# Altium footprint library MegaProject_Lib.PcbLib: 20 footprints (part 1 of 2)
Each footprint in its own frame and in the unit in brackets; x right, y up, seen from the top. Pads: shape width x height; smd on the part's side, far side on the other; paste and mask are expansions set on the pad; w line width, h text height; cw(c..) or ccw(c..) is an arc to the next point about the centre after c.
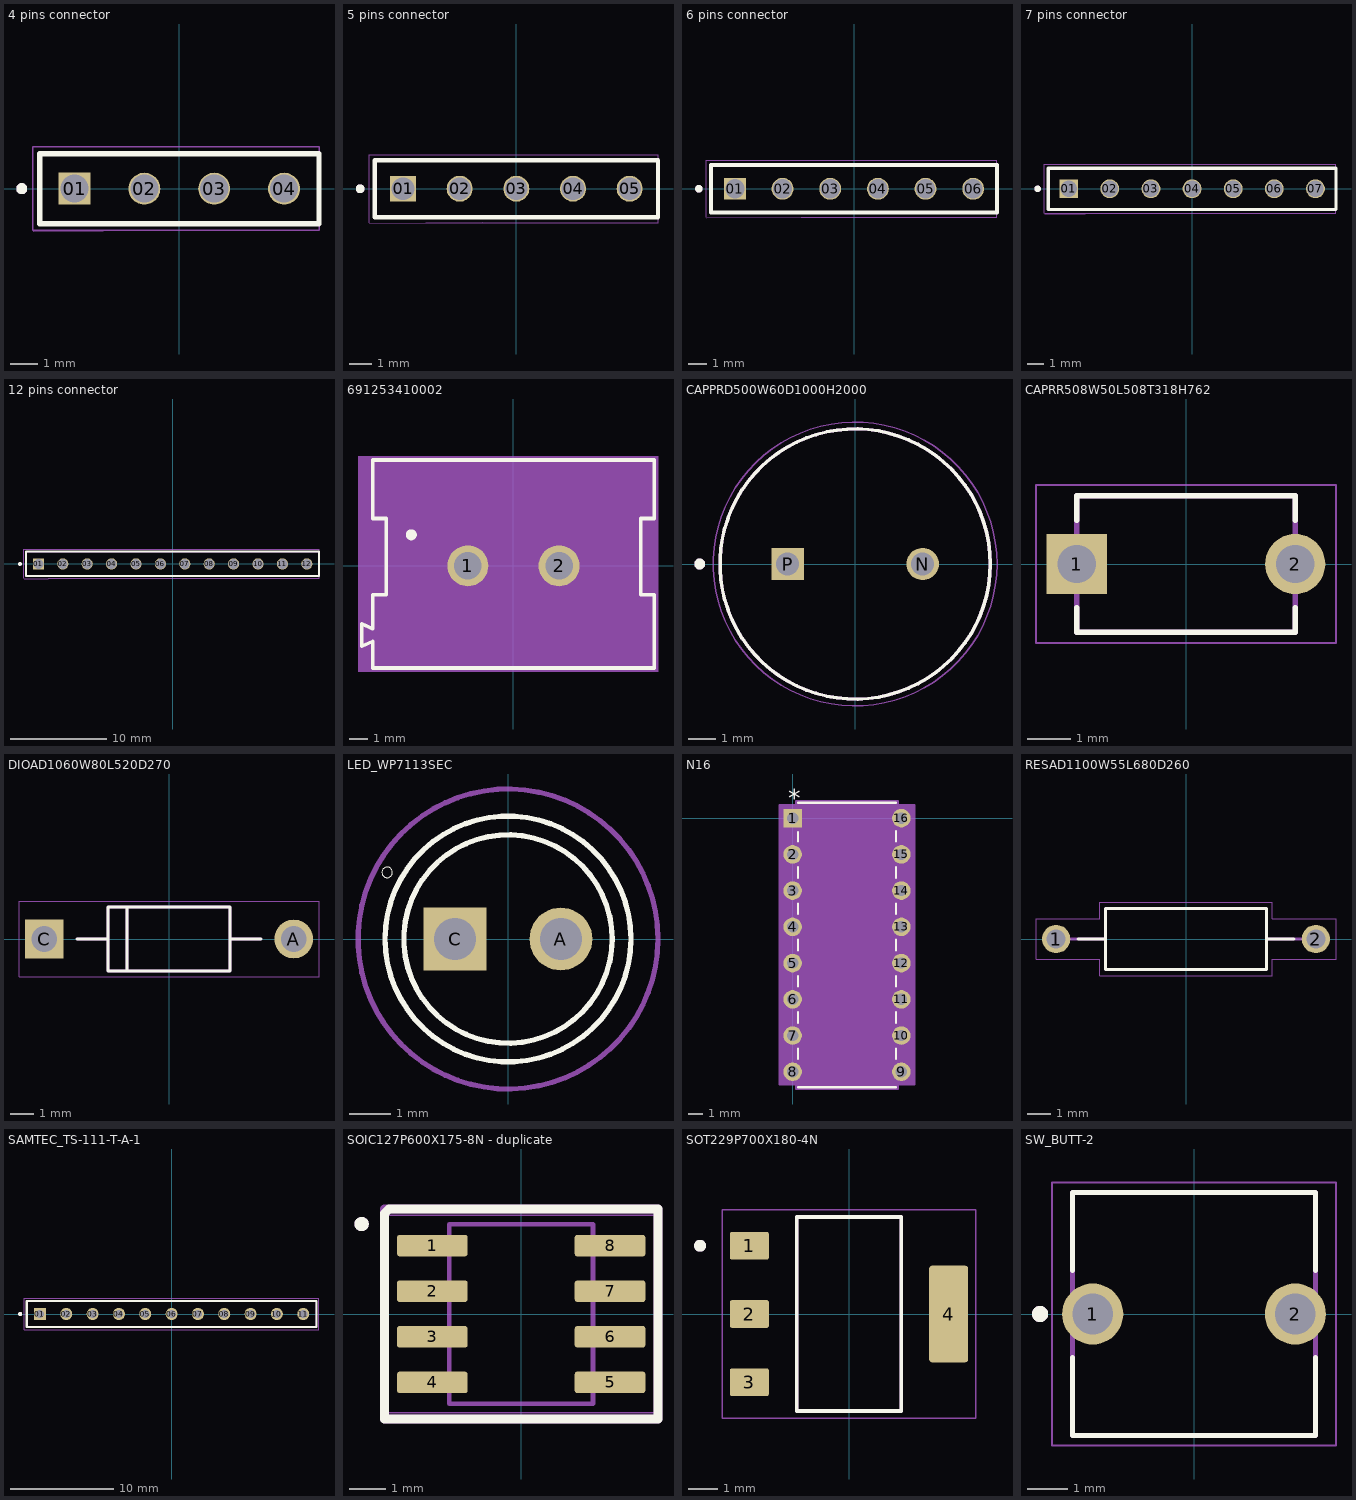
[diagram p0: the footprints below, top view; thin cyan lines are the x and y axes]

## 4 pins connector [mm]
pads (4):
  rect 1.163x1.163 hole 1.02: 01(-3.81,0)
  round 1.163 hole 1.02: 02(-1.27,0) 03(1.27,0) 04(3.81,0)
Top Overlay:
  circle w0.2: c-5.73,0 r0.1
  lines w0.2: -2.54,-1.27 -5.08,-1.27 ; -2.54,1.27 -5.08,1.27 ; -5.08,-1.27 5.08,-1.27 5.08,-0.635 5.08,0.635 5.08,1.27 -5.08,1.27 ; -5.08,-1.27 -5.08,1.27
Mechanical 13:
  circle w0.2: c-5.73,0 r0.1
  lines w0.1: -5.08,-1.27 5.08,-1.27 ; -5.08,-1.27 -5.08,1.27 ; -5.08,-1.27 -5.08,1.27 ; -5.08,-1.27 -2.54,-1.27 -5.08,-1.27 ; -5.08,1.27 5.08,1.27 ; -5.08,1.27 5.08,1.27 ; -5.08,1.27 -2.54,1.27 -5.08,1.27 ; 5.08,-1.27 5.08,1.27 ; 5.08,-1.27 5.08,-0.635 5.08,0.635 5.08,1.27
Mechanical 15:
  lines w0.05: -5.335,-1.52 5.08,-1.52 5.08,1.52 -5.318,1.52 ; -5.33,-1.52 -5.33,1.52 ; -5.323,1.516 -2.805,1.516 ; -5.304,-1.544 -2.774,-1.526

## 5 pins connector [mm]
pads (5):
  rect 1.163x1.163 hole 1.02: 01(-5.08,0)
  round 1.163 hole 1.02: 02(-2.54,0) 03(0,0) 04(2.54,0) 05(5.08,0)
Top Overlay:
  circle w0.2: c-7,0 r0.1
  lines w0.2: -3.81,-1.27 6.35,-1.27 6.35,-0.635 6.35,0.635 6.35,1.27 -3.81,1.27 ; -1.27,-1.27 -6.35,-1.27 -6.35,1.27 -1.27,1.27
Mechanical 13:
  circle w0.2: c-7,0 r0.1
  lines w0.1: -3.81,-1.27 6.35,-1.27 ; -6.35,-1.27 -6.35,1.27 ; -6.35,-1.27 -6.35,1.27 ; -6.35,-1.27 -1.27,-1.27 -6.35,-1.27 ; -6.35,1.27 -1.27,1.27 -6.35,1.27 ; 6.35,-1.27 6.35,1.27 ; 6.35,-1.27 6.35,-0.635 6.35,0.635 6.35,1.27 ; 6.35,1.27 -3.81,1.27 6.35,1.27
Mechanical 15:
  lines w0.05: -6.6,-1.52 -6.6,1.52 ; -6.593,1.516 -1.426,1.516 ; -6.574,-1.544 -1.539,-1.508 ; -4.065,-1.52 6.35,-1.52 6.35,1.52 -4.048,1.52

## 6 pins connector [mm]
pads (6):
  rect 1.163x1.163 hole 1.02: 01(-6.35,0)
  round 1.163 hole 1.02: 02(-3.81,0) 03(-1.27,0) 04(1.27,0) 05(3.81,0) 06(6.35,0)
Top Overlay:
  circle w0.2: c-8.27,0 r0.1
  lines w0.2: -7.62,-1.27 -7.62,1.27 -2.54,1.27 7.62,1.27 7.62,0.635 7.62,-0.635 7.62,-1.27 -2.54,-1.27 -7.62,-1.27
Mechanical 13:
  circle w0.2: c-8.27,0 r0.1
  lines w0.1: -7.62,-1.27 -7.62,1.27 ; -7.62,-1.27 -7.62,1.27 ; -7.62,-1.27 -2.54,-1.27 ; -7.62,-1.27 -2.54,-1.27 ; -7.62,1.27 -2.54,1.27 ; -7.62,1.27 -2.54,1.27 ; -2.54,-1.27 7.62,-1.27 ; -2.54,1.27 7.62,1.27 ; -2.54,1.27 7.62,1.27 ; 7.62,-1.27 7.62,1.27 ; 7.62,-1.27 7.62,-0.635 7.62,0.635 7.62,1.27
Mechanical 15:
  lines w0.05: -7.87,-1.52 -7.87,1.52 ; -7.863,1.516 -2.696,1.516 ; -7.844,-1.544 -2.809,-1.508 ; -2.795,-1.52 7.62,-1.52 7.62,1.52 -2.778,1.52

## 7 pins connector [mm]
pads (7):
  rect 1.163x1.163 hole 1.02: 01(-7.62,0)
  round 1.163 hole 1.02: 02(-5.08,0) 03(-2.54,0) 04(0,0) 05(2.54,0) 06(5.08,0) 07(7.62,0)
Top Overlay:
  circle w0.2: c-9.54,0 r0.1
  lines w0.2: -6.35,-1.27 -8.89,-1.27 ; -6.35,1.27 -8.89,1.27 ; -8.89,-1.27 8.89,-1.27 8.89,1.27 -8.89,1.27 ; -8.89,-1.27 -8.89,1.27
Mechanical 13:
  circle w0.2: c-9.54,0 r0.1
  lines w0.1: -8.89,-1.27 -6.35,-1.27 -8.89,-1.27 ; -8.89,-1.27 8.89,-1.27 ; -8.89,-1.27 -8.89,1.27 ; -8.89,-1.27 -8.89,1.27 ; -8.89,1.27 -6.35,1.27 -8.89,1.27 ; -8.89,1.27 8.89,1.27 ; -8.89,1.27 8.89,1.27 ; 8.89,-1.27 8.89,1.27 ; 8.89,-1.27 8.89,-0.635 8.89,0.635 8.89,1.27
Mechanical 15:
  lines w0.05: -9.14,-1.52 -9.14,1.52 ; -9.133,1.516 -6.615,1.516 ; -9.114,-1.544 -6.584,-1.526 ; -9.098,-1.52 8.89,-1.52 8.89,1.52 -9.077,1.52

## 12 pins connector [mm]
pads (12):
  rect 1.163x1.163 hole 1.02: 01(-13.97,0)
  round 1.163 hole 1.02: 02(-11.43,0) 03(-8.89,0) 04(-6.35,0) 05(-3.81,0) 06(-1.27,0) 07(1.27,0) 08(3.81,0) 09(6.35,0) 10(8.89,0) 11(11.43,0) 12(13.97,0)
Top Overlay:
  circle w0.2: c-15.89,0 r0.1
  lines w0.2: -15.24,-1.27 -12.7,-1.27 15.24,-1.27 15.24,1.27 -12.7,1.27 -15.24,1.27 -15.24,-1.27
Mechanical 13:
  circle w0.2: c-15.89,0 r0.1
  lines w0.1: -15.24,-1.27 -12.7,-1.27 ; -15.24,-1.27 -12.7,-1.27 ; -15.24,-1.27 -15.24,1.27 ; -15.24,-1.27 -15.24,1.27 ; -15.24,1.27 -12.7,1.27 ; -15.24,1.27 -12.7,1.27 ; -12.7,-1.27 15.24,-1.27 ; -12.7,1.27 15.24,1.27 ; -12.7,1.27 15.24,1.27 ; 15.24,-1.27 15.24,1.27 ; 15.24,-1.27 15.24,-0.635 15.24,0.635 15.24,1.27
Mechanical 15:
  lines w0.05: -15.49,-1.52 -15.49,1.52 ; -15.483,1.516 -12.965,1.516 ; -15.464,-1.544 -12.934,-1.526 ; -12.95,-1.52 15.24,-1.52 15.24,1.52 -12.95,1.52

## 691253410002 [mm]
pads (2):
  round 2.25 hole 1.5: 1(-2.5,0) 2(2.5,0)
Top Overlay:
  circle w0.4: c-5.6,1.7 r0.1
  lines w0.2: -8.32,-4.41 -8.32,-3.18 -7.72,-3.44 -7.72,-1.59 -6.97,-1.59 -6.97,2.59 -7.72,2.59 -7.72,5.8 7.72,5.8 7.72,2.59 6.97,2.59 6.97,-1.59 7.72,-1.59 7.72,-5.6 -7.72,-5.6 -7.72,-4.15 -8.32,-4.41
Mechanical 13:
  lines w0.1: -8.22,-4.31 -7.62,-4.05 -7.62,-5.5 7.62,-5.5 7.62,-1.69 6.87,-1.69 6.87,2.69 7.62,2.69 7.62,5.7 -7.62,5.7 -7.62,2.69 -6.87,2.69 -6.87,-1.69 -7.62,-1.69 -7.62,-3.54 -8.22,-3.28 -8.22,-4.31
Mechanical 15:
  region: 7.92,-5.8 -8.52,-5.8 -8.52,6 7.92,6

## CAPPRD500W60D1000H2000 [mm]
pads (2):
  round 1.2 hole 0.85: N(2.5,0)
  rect 1.2x1.2 hole 0.85: P(-2.5,0)
Top Overlay:
  circle w0.2: c-5.75,0 r0.1
  circle w0.127: c0,0 r5
Mechanical 13:
  circle w0.2: c-5.75,0 r0.1
  circle w0.127: c0,0 r5
Mechanical 15:
  circle w0.05: c0,0 r5.25
3D body "step_temp.STEP": height 20, standoff -17, extent -5,-5 5,5

## CAPRR508W50L508T318H762 [mm]
pads (2):
  rect 1.398x1.398 / inner round 1.398 / far side rect 1.398x1.398 hole 0.89: 1(-2.54,0)
  round 1.398 hole 0.89: 2(2.54,0)
Top Overlay:
  lines w0.127: -2.54,-1.019 -2.54,-1.587 2.54,-1.587 2.54,-1.019 ; -2.54,1.019 -2.54,1.587 2.54,1.587 2.54,1.019
Mechanical 13:
  lines w0.127: -2.54,-1.587 -2.54,1.587 2.54,1.587 2.54,-1.587 -2.54,-1.587
Mechanical 15:
  lines w0.05: -3.489,-1.837 -3.489,1.837 3.489,1.837 3.489,-1.837 -3.489,-1.837

## DIOAD1060W80L520D270 [mm]
pads (2):
  round 1.65 hole 1.1: A(5.3,0)
  rect 1.65x1.65 / inner round 1.65 / far side rect 1.65x1.65 hole 1.1: C(-5.3,0)
Top Overlay:
  lines w0.127: -3.9,0 -2.6,0 ; 3.9,0 2.6,0 ; -2.6,0 -2.6,-1.35 -1.775,-1.35 ; -2.6,0 -2.6,1.35 -1.775,1.35 ; -1.775,-1.35 -1.775,1.35 ; -1.775,-1.35 2.6,-1.35 2.6,0 ; -1.775,1.35 2.6,1.35 2.6,0
Mechanical 13:
  lines w0.127: -3.9,0 -2.6,0 ; 3.9,0 2.6,0 ; -2.6,0 -2.6,-1.35 -1.775,-1.35 ; -2.6,0 -2.6,1.35 -1.775,1.35 ; -1.775,-1.35 -1.775,1.35 ; -1.775,-1.35 2.6,-1.35 2.6,0 ; -1.775,1.35 2.6,1.35 2.6,0
Mechanical 15:
  lines w0.05: -6.375,-1.6 -6.375,1.6 6.375,1.6 6.375,-1.6 -6.375,-1.6
3D body "step_temp.STEP": height 2, standoff -22.86, extent -4.242,-1 4.242,1

## LED_WP7113SEC [mm]
pads (2):
  round 1.508 hole 1: A(1.27,0)
  rect 1.508x1.508 hole 1: C(-1.27,0)
Top Overlay:
  circle w0.127: c0,0 r2.95
  circle w0.127: c0,0 r2.5
  circle w0: c-2.9,1.6 r0.127
Mechanical 15:
  circle w0.127: c0,0 r3.6

## N16 [mil]
pads (16):
  rect 51x51 / inner round 60 / far side rect 51x51 hole 31 paste-25.5 mask+0: 1(0,0)
  round 51 / inner round 60 / far side round 51 hole 31 paste-25.5 mask+0: 2(0,-100) 3(0,-200) 4(0,-300) 5(0,-400) 6(0,-500) 7(0,-600) 8(0,-700) 9(300,-700) 10(300,-600) 11(300,-500) 12(300,-400) 13(300,-300) 14(300,-200) 15(300,-100) 16(300,0)
Top Overlay:
  lines w6: 15,-742.5 285,-742.5 ; 15,-664.43 15,-635.57 ; 15,-564.43 15,-535.57 ; 15,-464.43 15,-435.57 ; 15,-364.43 15,-335.57 ; 15,-264.43 15,-235.57 ; 15,-164.43 15,-135.57 ; 15,-64.43 15,-38.6 ; 15,42.5 285,42.5 ; 285,-664.43 285,-635.57 ; 285,-564.43 285,-535.57 ; 285,-464.43 285,-435.57 ; 285,-364.43 285,-335.57 ; 285,-264.43 285,-235.57 ; 285,-164.43 285,-135.57 ; 285,-64.43 285,-35.57
  text "*" at -12.5,30.5 h50
Mechanical 13:
  lines w0: 138,37.5 ccw(c150,37.5) 162,37.5
  lines w1: -15.5,-715.5 20,-715.5 20,-684.5 -15.5,-684.5 -15.5,-715.5 ; -15.5,-615.5 20,-615.5 20,-584.5 -15.5,-584.5 -15.5,-615.5 ; -15.5,-515.5 20,-515.5 20,-484.5 -15.5,-484.5 -15.5,-515.5 ; -15.5,-415.5 20,-415.5 20,-384.5 -15.5,-384.5 -15.5,-415.5 ; -15.5,-315.5 20,-315.5 20,-284.5 -15.5,-284.5 -15.5,-315.5 ; -15.5,-215.5 20,-215.5 20,-184.5 -15.5,-184.5 -15.5,-215.5 ; -15.5,-115.5 20,-115.5 20,-84.5 -15.5,-84.5 -15.5,-115.5 ; -15.5,-15.5 20,-15.5 20,15.5 -15.5,15.5 -15.5,-15.5 ; 20,-737.5 20,37.5 280,37.5 280,-737.5 20,-737.5 ; 280,-715.5 315.5,-715.5 315.5,-684.5 280,-684.5 280,-715.5 ; 280,-615.5 315.5,-615.5 315.5,-584.5 280,-584.5 280,-615.5 ; 280,-515.5 315.5,-515.5 315.5,-484.5 280,-484.5 280,-515.5 ; 280,-415.5 315.5,-415.5 315.5,-384.5 280,-384.5 280,-415.5 ; 280,-315.5 315.5,-315.5 315.5,-284.5 280,-284.5 280,-315.5 ; 280,-215.5 315.5,-215.5 315.5,-184.5 280,-184.5 280,-215.5 ; 280,-115.5 315.5,-115.5 315.5,-84.5 280,-84.5 280,-115.5 ; 280,-15.5 315.5,-15.5 315.5,15.5 280,15.5 280,-15.5
  text "*" at 17.5,-25 h50
Mechanical 15:
  region: 290,-735.5 335.5,-735.5 335.5,35.5 290,35.5 290,47.5 10,47.5 10,35.5 -35.5,35.5 -35.5,-735.5 10,-735.5 10,-747.5 290,-747.5
  lines w6: -35.5,-735.5 10,-735.5 10,-747.5 290,-747.5 290,-735.5 335.5,-735.5 335.5,35.5 290,35.5 290,47.5 10,47.5 10,35.5 -35.5,35.5 -35.5,-735.5
3D body "N16.step": height 205.12, standoff -100, extent -5,-737.48 315,37.48
3D body "N16.step": height 205.12, standoff -100, extent -5,-737.48 315,37.48

## RESAD1100W55L680D260 [mm]
pads (2):
  round 1.2 hole 0.8: 1(-5.5,0) 2(5.5,0)
Top Overlay:
  lines w0.127: -4.58,0 -3.4,0 ; 4.58,0 3.4,0 ; -3.4,0 -3.4,-1.3 3.4,-1.3 3.4,0 ; -3.4,0 -3.4,1.3 3.4,1.3 3.4,0
Mechanical 13:
  lines w0.127: -4.9,0 -3.4,0 ; 4.9,0 3.4,0 ; -3.4,0 -3.4,-1.3 3.4,-1.3 3.4,0 ; -3.4,0 -3.4,1.3 3.4,1.3 3.4,0
Mechanical 15:
  lines w0.05: -6.35,-0.85 -6.35,0.85 -3.65,0.85 -3.65,1.55 3.65,1.55 3.65,0.85 6.35,0.85 6.35,-0.85 3.65,-0.85 3.65,-1.55 -3.65,-1.55 -3.65,-0.85 -6.35,-0.85

## SAMTEC_TS-111-T-A-1 [mil]
pads (11):
  rect 45.78x45.78 / inner round 45.78 / far side rect 45.78x45.78 hole 32: 01(-500,0)
  round 45.78 hole 32: 02(-400,0) 03(-300,0) 04(-200,0) 05(-100,0) 06(0,0) 07(100,0) 08(200,0) 09(300,0) 10(400,0) 11(500,0)
Top Overlay:
  circle w7.87: c-575.59,0 r3.94
  lines w7.87: -550,-50 550,-50 550,50 -550,50 -550,-50
Mechanical 13:
  circle w7.87: c-575.59,0 r3.94
  lines w3.94: -550,-50 -550,50 ; -550,-50 550,-50 ; -550,-50 -550,50 ; -550,50 550,50 ; -550,50 550,50 ; 550,-50 550,50 ; 550,-50 550,50
Mechanical 15:
  lines w1.97: -559.84,-59.84 559.84,-59.84 559.84,59.84 -559.84,59.84 -559.84,-59.84

## SOIC127P600X175-8N - duplicate [mm]
pads (8):
  rrect25% 1.97x0.6 smd: 1(-2.475,1.905) 2(-2.475,0.635) 3(-2.475,-0.635) 4(-2.475,-1.905) 5(2.475,-1.905) 6(2.475,-0.635) 7(2.475,0.635) 8(2.475,1.905)
Top Overlay:
  circle w0.2: c-4.445,2.505 r0.1
  lines w0.254: -3.81,-2.921 3.81,-2.921 3.81,2.921 -3.683,2.921 -3.81,2.794 -3.81,-2.921
Mechanical 13:
  circle w0.2: c-4.445,2.505 r0.1
  lines w0.127: -2,-2.5 2,-2.5 2,2.5 -2,2.5 -2,-2.5
Mechanical 15:
  lines w0.05: -3.71,-2.75 3.71,-2.75 3.71,2.75 -3.71,2.75 -3.71,-2.75
Mechanical 29:
  lines w0.254: -3.81,-2.921 3.81,-2.921 3.81,2.921 -3.81,2.921 -3.81,-2.921
  text ".Designator" at -2.286,-0.381 h1.52
3D body "step_temp.STEP": height 1.75, standoff 0, extent -3,-2.45 3,2.45

## SOT229P700X180-4N [mm]
height 1.8
pads (4):
  rrect15% 1.31x0.93 smd: 1(-3.345,2.29) 2(-3.345,0) 3(-3.345,-2.29)
  rrect15% 1.31x3.24 smd: 4(3.345,0)
Top Overlay:
  circle w0.2: c-5,2.29 r0.1
  lines w0.127: -1.753,-3.253 -1.753,3.253 1.753,3.253 1.753,-3.253 -1.753,-3.253
Mechanical 13:
  circle w0.2: c-5,2.29 r0.1
  lines w0.127: -1.753,-3.253 -1.753,3.253 1.753,3.253 1.753,-3.253 -1.753,-3.253
Mechanical 15:
  lines w0.05: -4.25,-3.502 4.25,-3.502 4.25,3.502 -4.25,3.502 -4.25,-3.502
3D body "step_temp.STEP": height 1.8, standoff 0, extent -3.499,-3.251 3.499,3.251

## SW_BUTT-2 [mm]
height 9.5
pads (2):
  round 1.508 hole 1: 1(-2.5,0) 2(2.5,0)
Top Overlay:
  circle w0.2: c-3.8,0 r0.1
  lines w0.127: -3,-1.075 -3,-3 3,-3 3,-1.075 ; -3,1.075 -3,3 3,3 3,1.075
Mechanical 13:
  circle w0.2: c-3.8,0 r0.1
  lines w0.127: -3,-3 3,-3 3,3 -3,3 -3,-3
Mechanical 15:
  lines w0.05: -3.504,-3.25 -3.504,3.25 3.504,3.25 3.504,-3.25 -3.504,-3.25